# Altium schematic symbol library OffTheClock.SchLib: 27 symbols
Pins are listed as number, name and electrical type; pins without a type are passive.

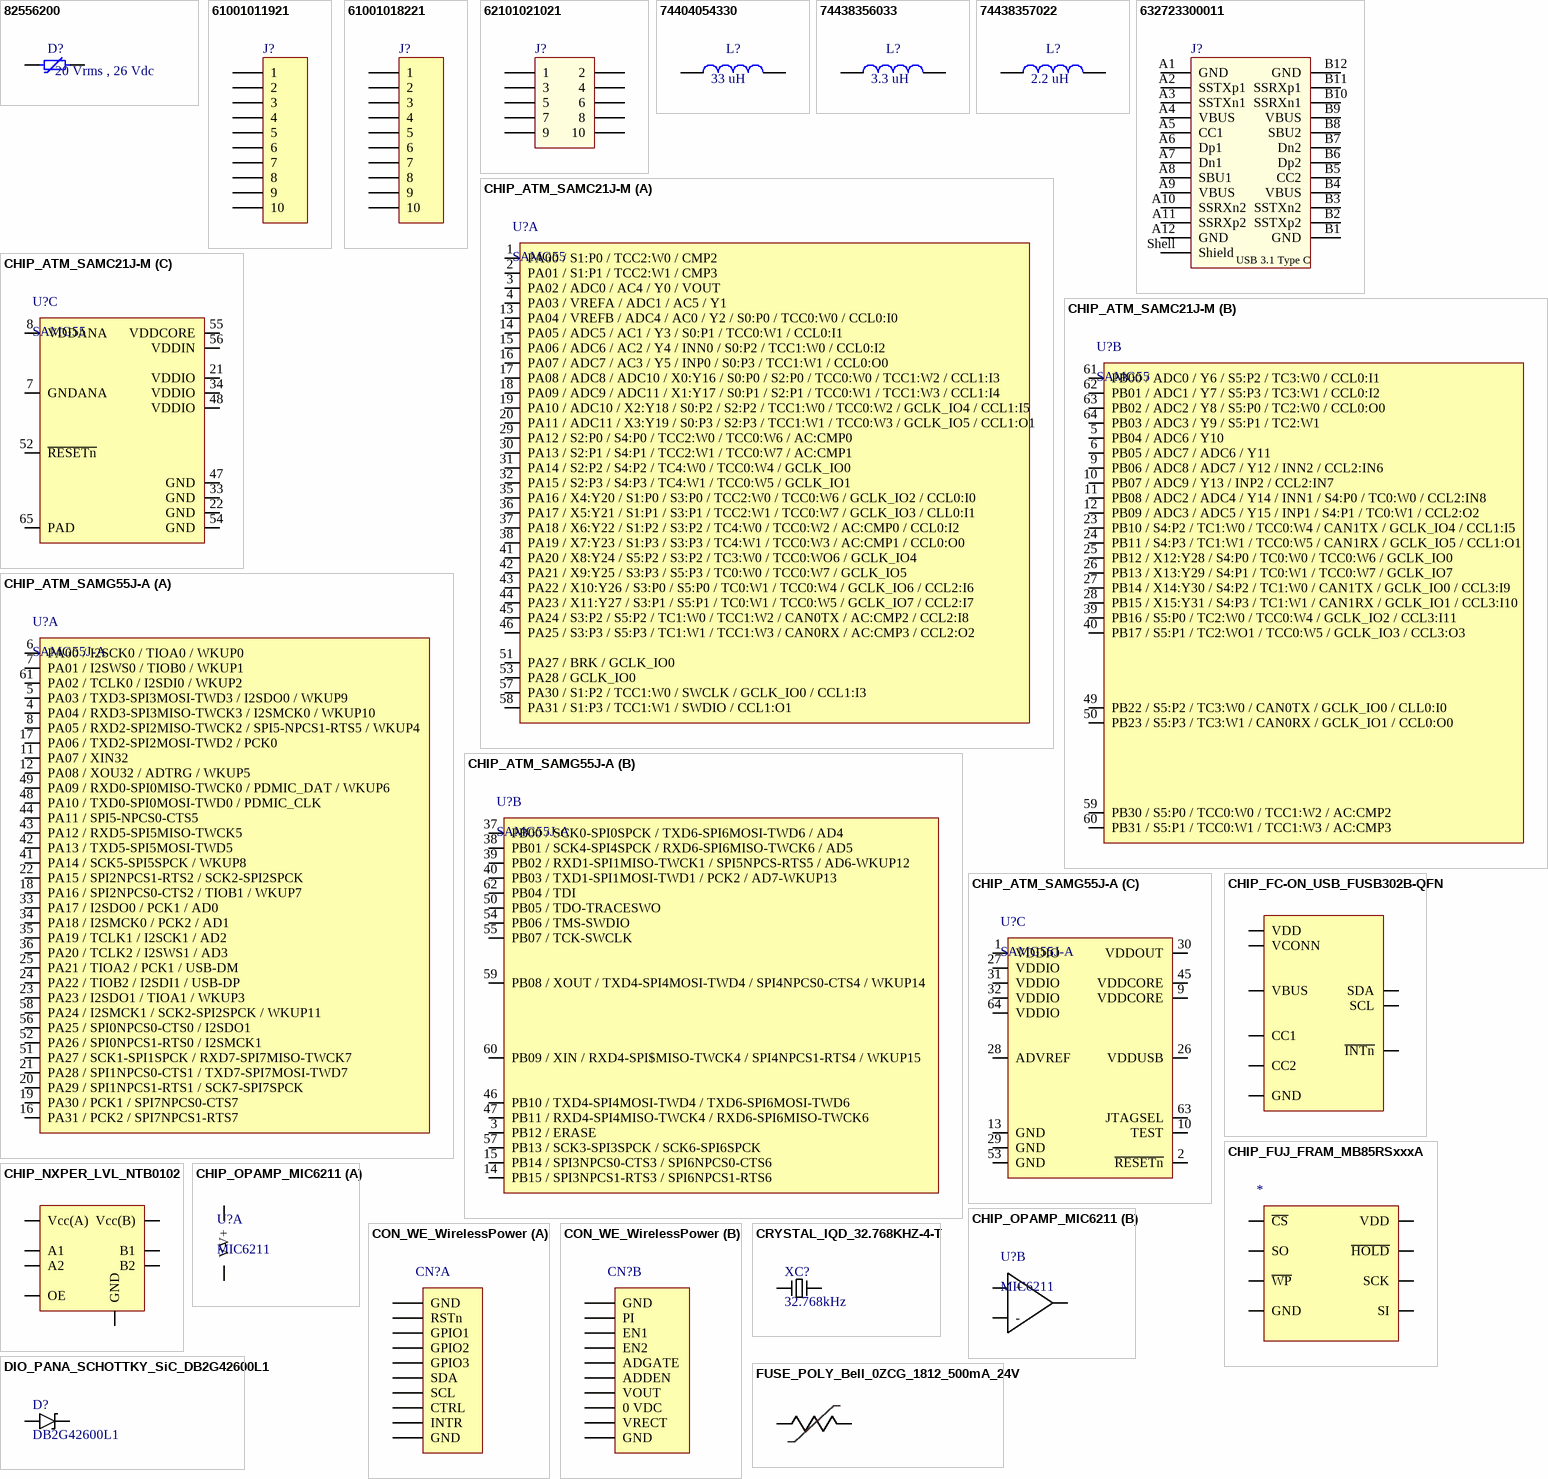
[diagram p0: symbols 82556200 to FUSE_POLY_Bell_0ZCG_1812_500mA_24V]

## 82556200
designator D?, comment 20 Vrms , 26 Vdc
WE-VS SMD Varistor, size 0603, 20 Vrms , 26 Vdc; PartNumber: 82556200; PublishedDate: Nov. 2016; Publisher: Wurth Elektronik; ComponentLink1Description: Manufacturer; ComponentLink1URL: http://www.we-online.de; ComponentLink2Description: Datasheet; ComponentLink2URL: http://katalog.we-online.de/pbs/datasheet/82556200.pdf; Size: 0603; Value: 20 Vrms , 26 Vdc
footprint WE-VS_0603
pins: 1 I/O1, 2 I/O1

## 61001011921
designator J?, comment 10p  (value not drawn)
WR-PHD 2.54 mm SMT Socket Header, 10p; PartNumber: 61001011921; PublishedDate: July 2016; Publisher: Wurth Elektronik; ComponentLink1Description: Manufacturer; ComponentLink1URL: http://www.we-online.de; ComponentLink2Description: Datasheet; ComponentLink2URL: http://katalog.we-online.de/em/datasheet/6100xx11921.pdf; PinNumber: 10p
footprint 61001011921
pins: 1, 2, 3, 4, 5, 6, 7, 8, 9, 10

## 61001018221
designator J?, comment 10p  (value not drawn)
WR-PHD 2.54 mm SMT Pin Header, 10p; PartNumber: 61001018221; PublishedDate: July 2016; Publisher: Wurth Elektronik; ComponentLink1Description: Manufacturer; ComponentLink1URL: http://www.we-online.de; ComponentLink2Description: Datasheet; ComponentLink2URL: http://katalog.we-online.de/em/datasheet/6100xx18221%282%29.pdf; PinNumber: 10p
footprint 61001018221
pins: 1, 2, 3, 4, 5, 6, 7, 8, 9, 10

## 62101021021
designator J?
WR-PHD 1.27 mm SMD Dual Pin Header, H=3.80mm, 10p; Part Number: 62101021021; Pitch: 1.27 mm; Pin Number: 10; ComponentLink1Description: Manufacturer; ComponentLink1URL: http://www.we-online.de; ComponentLink2Description: Datasheet; ComponentLink2URL: http://katalog.we-online.de/em/datasheet/6210xx21021.pdf; Published Date: April 2017; Publisher: Wurth Elektronik
footprint 62101021021 (SMD Dual Pin Header, H=3.80mm, 10p)
pins: 1, 2, 3, 4, 5, 6, 7, 8, 9, 10

## 74404054330
designator L?  value 33 uH
WE-LQS SMD Power Inductor, size 5040, 33 uH; PartNumber: 74404054330; RatedCurrent: 1.2 A; PublishedDate: Nov. 2016; Publisher: Wurth Elektronik; ComponentLink1Description: Manufacturer; ComponentLink1URL: http://www.we-online.de; ComponentLink2Description: Datasheet; ComponentLink2URL: http://katalog.we-online.de/pbs/datasheet/74404054330.pdf; Size: 5040
footprint WE-LQS_5040
pins: 1, 2

## 74438356033
designator L?  value 3.3 uH
WE-MAPI SMD Shielded Power Inductor, size 4020, 3.3 uH; PartNumber: 74438356033; RatedCurrent: 3.6 A; PublishedDate: Nov. 2016; Publisher: Wurth Elektronik; ComponentLink1Description: Manufacturer; ComponentLink1URL: http://www.we-online.de; ComponentLink2Description: Datasheet; ComponentLink2URL: http://katalog.we-online.de/pbs/datasheet/74438356033.pdf; Size: 4020
footprint WE-MAPI_4020
pins: 1, 2

## 74438357022
designator L?  value 2.2 uH
WE-MAPI SMD Shielded Power Inductor, size 4030, 2.2 uH; PartNumber: 74438357022; RatedCurrent: 5.2 A; PublishedDate: Nov. 2016; Publisher: Wurth Elektronik; ComponentLink1Description: Manufacturer; ComponentLink1URL: http://www.we-online.de; ComponentLink2Description: Datasheet; ComponentLink2URL: http://katalog.we-online.de/pbs/datasheet/74438357022.pdf; Size: 4030
footprint WE-MAPI_4030
pins: 1, 2

## 632723300011
designator J?
USB 3.1 Type C Receptacle Horizontal THR WR-COM; Part Number: 632723300011; Interface Type: Type C; Sub-Family: USB 3.1; ComponentLink1Description: Manufacturer; ComponentLink1URL: http://www.we-online.de; ComponentLink2Description: Datasheet; ComponentLink2URL: http://katalog.we-online.de/em/datasheet/632723x00011.pdf; Published Date: April 2017; Publisher: Wurth Elektronik; Gender: Receptacle; Type: Horizontal; Construction: THR
footprint 632723300011
pins: A1 GND, A2 SSTXp1, A3 SSTXn1, A4 VBUS, A5 CC1, A6 Dp1, A7 Dn1, A8 SBU1, A9 VBUS, A10 SSRXn2, A11 SSRXp2, A12 GND, B1 GND, B2 SSTXp2, B3 SSTXn2, B4 VBUS, B5 CC2, B6 Dp2, B7 Dn2, B8 SBU2, B9 VBUS, B10 SSRXn1, B11 SSRXp1, B12 GND, Shell Shield
text: USB 3.1 Type C

## CHIP_ATM_SAMC21J-M
designator U?, comment SAMG55
Atmel ARM M0+ 64pin SAMC21
part A pins: 1 PA00 / S1:P0 / TCC2:W0 / CMP2 "PadConnect", 2 PA01 / S1:P1 / TCC2:W1 / CMP3 "PadConnect", 3 PA02 / ADC0 / AC4 / Y0 / VOUT "PadConnect", 4 PA03 / VREFA / ADC1 / AC5 / Y1 "PadConnect", 13 PA04 / VREFB / ADC4 / AC0 / Y2 / S0:P0 / TCC0:W0 / CCL0:I0 "PadConnect", 14 PA05 / ADC5 / AC1 / Y3 / S0:P1 / TCC0:W1 / CCL0:I1 "PadConnect", 15 PA06 / ADC6 / AC2 / Y4 / INN0 / S0:P2 / TCC1:W0 / CCL0:I2 "PadConnect", 16 PA07 / ADC7 / AC3 / Y5 / INP0 / S0:P3 / TCC1:W1 / CCL0:O0 "PadConnect", 17 PA08 / ADC8 / ADC10 / X0:Y16 / S0:P0 / S2:P0 / TCC0:W0 / TCC1:W2 / CCL1:I3 "PadConnect", 18 PA09 / ADC9 / ADC11 / X1:Y17 / S0:P1 / S2:P1 / TCC0:W1 / TCC1:W3 / CCL1:I4 "PadConnect", 19 PA10 / ADC10 / X2:Y18 / S0:P2 / S2:P2 / TCC1:W0 / TCC0:W2 / GCLK_IO4 / CCL1:I5 "PadConnect", 20 PA11 / ADC11 / X3:Y19 / S0:P3 / S2:P3 / TCC1:W1 / TCC0:W3 / GCLK_IO5 / CCL1:O1 "PadConnect", 29 PA12 / S2:P0 / S4:P0 / TCC2:W0 / TCC0:W6 / AC:CMP0 "PadConnect", 30 PA13 / S2:P1 / S4:P1 / TCC2:W1 / TCC0:W7 / AC:CMP1 "PadConnect", 31 PA14 / S2:P2 / S4:P2 / TC4:W0 / TCC0:W4 / GCLK_IO0 "PadConnect", 32 PA15 / S2:P3 / S4:P3 / TC4:W1 / TCC0:W5 / GCLK_IO1 "PadConnect", 35 PA16 / X4:Y20 / S1:P0 / S3:P0 / TCC2:W0 / TCC0:W6 / GCLK_IO2 / CCL0:I0 "PadConnect", 36 PA17 / X5:Y21 / S1:P1 / S3:P1 / TCC2:W1 / TCC0:W7 / GCLK_IO3 / CLL0:I1 "PadConnect", 37 PA18 / X6:Y22 / S1:P2 / S3:P2 / TC4:W0 / TCC0:W2 / AC:CMP0 / CCL0:I2 "PadConnect", 38 PA19 / X7:Y23 / S1:P3 / S3:P3 / TC4:W1 / TCC0:W3 / AC:CMP1 / CCL0:O0 "PadConnect", 41 PA20 / X8:Y24 / S5:P2 / S3:P2 / TC3:W0 / TCC0:WO6 / GCLK_IO4 "PadConnect", 42 PA21 / X9:Y25 / S3:P3 / S5:P3 / TC0:W0 / TCC0:W7 / GCLK_IO5 "PadConnect", 43 PA22 / X10:Y26 / S3:P0 / S5:P0 / TC0:W1 / TCC0:W4 / GCLK_IO6 / CCL2:I6 "PadConnect", 44 PA23 / X11:Y27 / S3:P1 / S5:P1 / TC0:W1 / TCC0:W5 / GCLK_IO7 / CCL2:I7 "PadConnect", 45 PA24 / S3:P2 / S5:P2 / TC1:W0 / TCC1:W2 / CAN0TX / AC:CMP2 / CCL2:I8 "PadConnect", 46 PA25 / S3:P3 / S5:P3 / TC1:W1 / TCC1:W3 / CAN0RX / AC:CMP3 / CCL2:O2 "PadConnect", 51 PA27 / BRK / GCLK_IO0 "PadConnect", 53 PA28 / GCLK_IO0 "PadConnect", 57 PA30 / S1:P2 / TCC1:W0 / SWCLK / GCLK_IO0 / CCL1:I3 "PadConnect", 58 PA31 / S1:P3 / TCC1:W1 / SWDIO / CCL1:O1 "PadConnect"
part B pins: 5 PB04 / ADC6 / Y10  "PadConnect", 6 PB05 / ADC7 / ADC6 / Y11 "PadConnect", 9 PB06 / ADC8 / ADC7 / Y12 / INN2 / CCL2:IN6 "PadConnect", 10 PB07 / ADC9 / Y13 / INP2 / CCL2:IN7 "PadConnect", 11 PB08 / ADC2 / ADC4 / Y14 / INN1 / S4:P0 / TC0:W0 / CCL2:IN8 "PadConnect", 12 PB09 / ADC3 / ADC5 / Y15 / INP1 / S4:P1 / TC0:W1 / CCL2:O2 "PadConnect", 23 PB10 / S4:P2 / TC1:W0 / TCC0:W4 / CAN1TX / GCLK_IO4 / CCL1:I5 "PadConnect", 24 PB11 / S4:P3 / TC1:W1 / TCC0:W5 / CAN1RX / GCLK_IO5 / CCL1:O1 "PadConnect", 25 PB12 / X12:Y28 / S4:P0 / TC0:W0 / TCC0:W6 / GCLK_IO0 "PadConnect", 26 PB13 / X13:Y29 / S4:P1 / TC0:W1 / TCC0:W7 / GCLK_IO7 "PadConnect", 27 PB14 / X14:Y30 / S4:P2 / TC1:W0 / CAN1TX / GCLK_IO0 / CCL3:I9 "PadConnect", 28 PB15 / X15:Y31 / S4:P3 / TC1:W1 / CAN1RX / GCLK_IO1 / CCL3:I10 "PadConnect", 39 PB16 / S5:P0 / TC2:W0 / TCC0:W4 / GCLK_IO2 / CCL3:I11 "PadConnect", 40 PB17 / S5:P1 / TC2:WO1 / TCC0:W5 / GCLK_IO3 / CCL3:O3 "PadConnect", 49 PB22 / S5:P2 / TC3:W0 / CAN0TX / GCLK_IO0 / CLL0:I0 "PadConnect", 50 PB23 / S5:P3 / TC3:W1 / CAN0RX / GCLK_IO1 / CCL0:O0 "PadConnect", 59 PB30 / S5:P0 / TCC0:W0 / TCC1:W2 / AC:CMP2 "PadConnect", 60 PB31 / S5:P1 / TCC0:W1 / TCC1:W3 / AC:CMP3 "PadConnect", 61 PB00 / ADC0 / Y6 / S5:P2 / TC3:W0 / CCL0:I1 "PadConnect", 62 PB01 / ADC1 / Y7 / S5:P3 / TC3:W1 / CCL0:I2 "PadConnect", 63 PB02 / ADC2 / Y8 / S5:P0 / TC2:W0 / CCL0:O0 "PadConnect", 64 PB03 / ADC3 / Y9 / S5:P1 / TC2:W1 "PadConnect"
part C pins: 7 GNDANA "PadConnect", 8 VDDANA "PadConnect", 21 VDDIO "PadConnect", 22 GND "PadConnect", 33 GND "PadConnect", 34 VDDIO "PadConnect", 47 GND "PadConnect", 48 VDDIO "PadConnect", 52 ~{RESETn} "PadConnect", 54 GND "PadConnect", 55 VDDCORE "PadConnect", 56 VDDIN "PadConnect", 65 PAD "PadConnect"

## CHIP_ATM_SAMG55J-A
designator U?, comment SAMG55J-A
Atmel ARM Cortex M4, 64pin QFP
part A pins: 4 PA04 / RXD3-SPI3MISO-TWCK3 / I2SMCK0 / WKUP10 "PadConnect", 5 PA03 / TXD3-SPI3MOSI-TWD3 / I2SDO0 / WKUP9 "PadConnect", 6 PA00 / I2SCK0 / TIOA0 / WKUP0 "PadConnect", 7 PA01 / I2SWS0 / TIOB0 / WKUP1 "PadConnect", 8 PA05 / RXD2-SPI2MISO-TWCK2 / SPI5-NPCS1-RTS5 / WKUP4 "PadConnect", 11 PA07 / XIN32 "PadConnect", 12 PA08 / XOU32 / ADTRG / WKUP5 "PadConnect", 16 PA31 / PCK2 / SPI7NPCS1-RTS7 "PadConnect", 17 PA06 / TXD2-SPI2MOSI-TWD2 / PCK0 "PadConnect", 18 PA16 / SPI2NPCS0-CTS2 / TIOB1 / WKUP7 "PadConnect", 19 PA30 / PCK1 / SPI7NPCS0-CTS7 "PadConnect", 20 PA29 / SPI1NPCS1-RTS1 / SCK7-SPI7SPCK "PadConnect", 21 PA28 / SPI1NPCS0-CTS1 / TXD7-SPI7MOSI-TWD7 "PadConnect", 22 PA15 / SPI2NPCS1-RTS2 / SCK2-SPI2SPCK "PadConnect", 23 PA23 / I2SDO1 / TIOA1 / WKUP3 "PadConnect", 24 PA22 / TIOB2 / I2SDI1 / USB-DP "PadConnect", 25 PA21 / TIOA2 / PCK1 / USB-DM "PadConnect", 33 PA17 / I2SDO0 / PCK1 / AD0 "PadConnect", 34 PA18 / I2SMCK0 / PCK2 / AD1 "PadConnect", 35 PA19 / TCLK1 / I2SCK1 / AD2 "PadConnect", 36 PA20 / TCLK2 / I2SWS1 / AD3 "PadConnect", 41 PA14 / SCK5-SPI5SPCK / WKUP8 "PadConnect", 42 PA13 / TXD5-SPI5MOSI-TWD5 "PadConnect", 43 PA12 / RXD5-SPI5MISO-TWCK5  "PadConnect", 44 PA11 / SPI5-NPCS0-CTS5 "PadConnect", 48 PA10 / TXD0-SPI0MOSI-TWD0 / PDMIC_CLK "PadConnect", 49 PA09 / RXD0-SPI0MISO-TWCK0 / PDMIC_DAT / WKUP6 "PadConnect", 51 PA27 / SCK1-SPI1SPCK / RXD7-SPI7MISO-TWCK7 "PadConnect", 52 PA26 / SPI0NPCS1-RTS0 / I2SMCK1 "PadConnect", 56 PA25 / SPI0NPCS0-CTS0 / I2SDO1 "PadConnect", 58 PA24 / I2SMCK1 / SCK2-SPI2SPCK / WKUP11 "PadConnect", 61 PA02 / TCLK0 / I2SDI0 / WKUP2 "PadConnect"
part B pins: 3 PB12 / ERASE "PadConnect", 14 PB15 / SPI3NPCS1-RTS3 / SPI6NPCS1-RTS6 "PadConnect", 15 PB14 / SPI3NPCS0-CTS3 / SPI6NPCS0-CTS6 "PadConnect", 37 PB00 / SCK0-SPI0SPCK / TXD6-SPI6MOSI-TWD6 / AD4 "PadConnect", 38 PB01 / SCK4-SPI4SPCK / RXD6-SPI6MISO-TWCK6 / AD5 "PadConnect", 39 PB02 / RXD1-SPI1MISO-TWCK1 / SPI5NPCS-RTS5 / AD6-WKUP12 "PadConnect", 40 PB03 / TXD1-SPI1MOSI-TWD1 / PCK2 / AD7-WKUP13 "PadConnect", 46 PB10 / TXD4-SPI4MOSI-TWD4 / TXD6-SPI6MOSI-TWD6 "PadConnect", 47 PB11 / RXD4-SPI4MISO-TWCK4 / RXD6-SPI6MISO-TWCK6 "PadConnect", 50 PB05 / TDO-TRACESWO "PadConnect", 54 PB06 / TMS-SWDIO "PadConnect", 55 PB07 / TCK-SWCLK "PadConnect", 57 PB13 / SCK3-SPI3SPCK / SCK6-SPI6SPCK "PadConnect", 59 PB08 / XOUT / TXD4-SPI4MOSI-TWD4 / SPI4NPCS0-CTS4 / WKUP14 "PadConnect", 60 PB09 / XIN / RXD4-SPI$MISO-TWCK4 / SPI4NPCS1-RTS4 / WKUP15 "PadConnect", 62 PB04 / TDI "PadConnect"
part C pins: 1 VDDIO "PadConnect", 2 ~{RESETn} "PadConnect", 9 VDDCORE "PadConnect", 10 TEST "PadConnect", 13 GND "PadConnect", 26 VDDUSB "PadConnect", 27 VDDIO "PadConnect", 28 ADVREF "PadConnect", 29 GND "PadConnect", 30 VDDOUT "PadConnect", 31 VDDIO "PadConnect", 32 VDDIO "PadConnect", 45 VDDCORE "PadConnect", 53 GND "PadConnect", 63 JTAGSEL "PadConnect", 64 VDDIO "PadConnect"

## CHIP_FC-ON_USB_FUSB302B-QFN
designator *  (value not drawn)
footprint CHIP_FC-ON_USB-FUSB302B_QFN50P250X250X80_HS-15N (QFN, 14-Leads, Body 2.50x2.50mm, Pitch 0.50mm, Thermal Pad 1.38x1.38mm, IPC Medium Density)
footprint CHIP_FC-ON_USB-FUSB302B_QFN50P250X250X80_HS-15N (QFN, 14-Leads, Body 2.50x2.50mm, Pitch 0.50mm, Thermal Pad 1.38x1.38mm, IPC Medium Density)
pins: 1 CC2 "PadConnect", 2 VBUS "PadConnect", 3 VDD "PadConnect", 4 VDD "PadConnect", 5 ~{INTn} "PadConnect", 6 SCL "PadConnect", 7 SDA "PadConnect", 8 GND "PadConnect", 9 GND "PadConnect", 10 CC1 "PadConnect", 11 CC1 "PadConnect", 12 VCONN "PadConnect", 13 VCONN "PadConnect", 14 CC2 "PadConnect"

## CHIP_FUJ_FRAM_MB85RSxxxA
designator *  (value not drawn)
footprint CHIP_FUJ_FRAM_MB85RSxxxA_SOP127P610X175-8N (SOP, 8-Leads, Body 5.07x3.95mm, Pitch 1.27mm, IPC Medium Density)
pins: 1 ~{CS}, 2 SO, 3 ~{WP}, 4 GND, 5 SI, 6 SCK, 7 ~{HOLD}, 8 VDD

## CHIP_NXPER_LVL_NTB0102
designator *  (value not drawn)
footprint CHIP_NXPER_LVL_NTB0102_PSON50P100X50-8N (PSON, 8-Leads, Body 1.95x1.00mm, Pitch 0.50mm, IPC Medium Density)
pins: 1 B2 "PadConnect", 2 GND "PadConnect", 3 Vcc(A) "PadConnect", 4 A2 "PadConnect", 5 A1 "PadConnect", 6 OE "PadConnect", 7 Vcc(B) "PadConnect", 8 B1 "PadConnect"

## CHIP_OPAMP_MIC6211
designator U?, comment MIC6211
footprint CHIP_OPAMP_MIC6211_SOT95P280X145-5N (SOT23, 5-Leads, Body 2.90x2.80mm, Pitch 0.95mm, IPC Medium Density)
part A pins: 2 V- "PadConnect", 5 V+ "PadConnect"
part B pins: 1 Out "PadConnect", 3 + "PadConnect", 4 - "PadConnect"

## CON_WE_WirelessPower
designator CN?, comment WirelessPower  (value not drawn)
Wurth Elektronik Wireless Power Experimenter Receiver Footprint; Constituant Part 1: *; Constituant Part 1 Count: *; Constituant Part 2: *; Constituant Part 2 Count: *; Constituant Part 3: *; Constituant Part 3 Count: *
footprint CON_WE_WirelessPower (Wurth Elektronik Wireless Power Footprint)
part A pins: 11 GND, 12 RSTn, 13 GPIO1, 14 GPIO2, 15 GPIO3, 16 SDA, 17 SCL, 18 CTRL, 19 INTR, 20 GND
part B pins: 1 GND, 2 PI, 3 EN1, 4 EN2, 5 ADGATE, 6 ADDEN, 7 VOUT, 8 0 VDC, 9 VRECT, 10 GND

## CRYSTAL_IQD_32.768KHZ-4-T
designator XC?, comment 32.768kHz
CFPX-217 IQD 32.768kHz 12.5pF Crystal
footprint CRYSTAL_IQD_32.768kHz_INDC3215X09N (Chip Inductor, 2-Leads, Body 3.20x1.50mm, IPC Medium Density)
pins: 1, 4

## DIO_PANA_SCHOTTKY_SiC_DB2G42600L1
designator D?, comment DB2G42600L1
Diode Schottky, Panasonic, 1A forward, low leakage
footprint DIO_PANA_DB2G42600L1_DFN66P100X12-2N (DFN, 2-Leads, Body 0.60x1.00mm, Pitch 0.66mm, IPC Medium Density)
pins: 1 C "PadConnect", 2 A "PadConnect"

## FUSE_POLY_Bell_0ZCG_1812_500mA_24V
designator F?, comment 0ZCG0050  (value not drawn)
footprint FUSE_POLY_0ZCG_RESC4632X16N (Chip Resistor, 2-Leads, Body 4.55x3.24mm, IPC Medium Density)
pins: 1 "PadConnect", 2 "PadConnect"

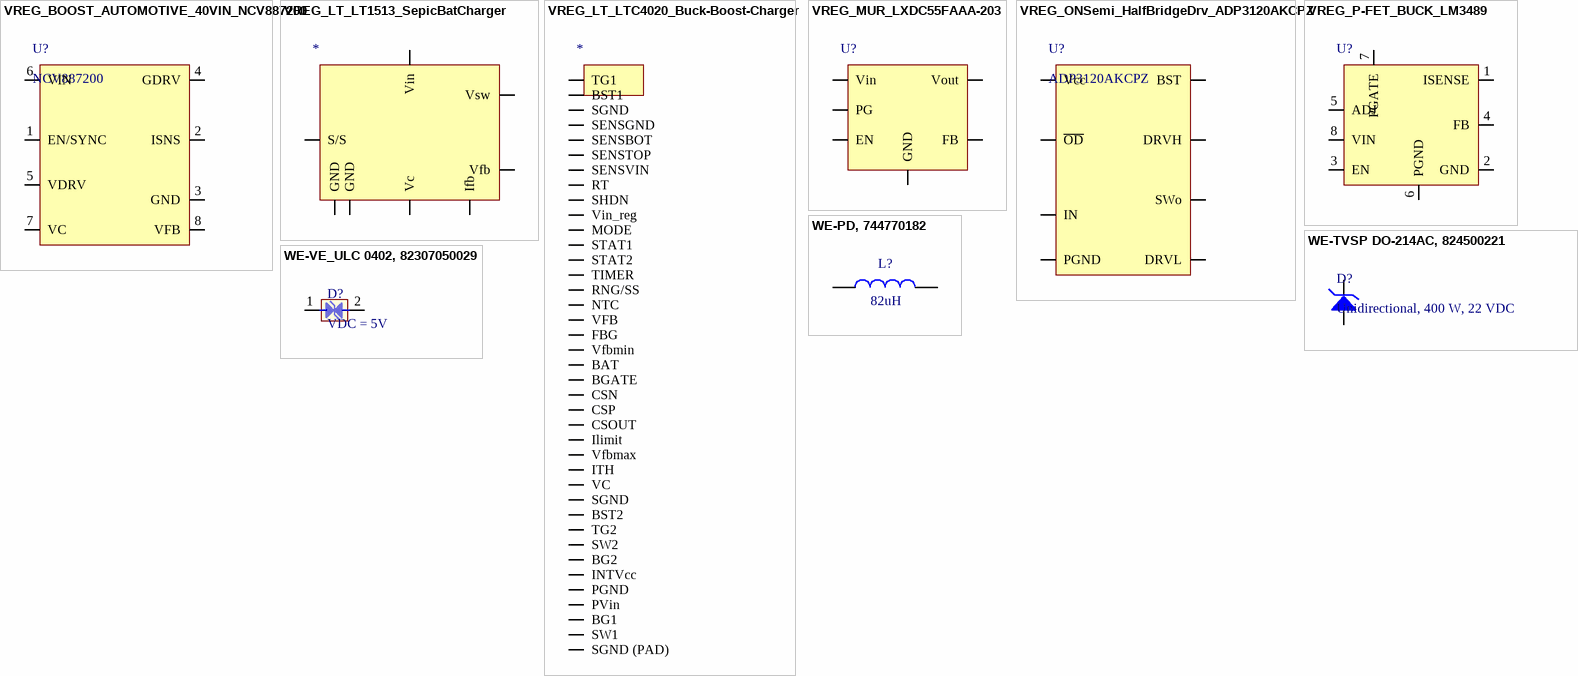
[diagram p1: symbols VREG_BOOST_AUTOMOTIVE_40VIN_NCV887200 to WE-VE_ULC 0402, 82307050029]

## VREG_BOOST_AUTOMOTIVE_40VIN_NCV887200
designator U?, comment NCV887200
footprint IC_ON_NCV887200_SOP127P600X175-8N (SOP, 8-Leads, Body 4.90x3.90mm, Pitch 1.27mm, IPC Medium Density)
pins: 1 EN/SYNC, 2 ISNS, 3 GND, 4 GDRV, 5 VDRV, 6 VIN, 7 VC, 8 VFB

## VREG_LT_LT1513_SepicBatCharger
designator *  (value not drawn)
footprint VREG_LT_LT1513_DPAK150P1394X457-8N (D2-PAK, 8-Pads, Body 7.80x8.63mm (max), IPC Medium Density)
pins: 1 Vc, 2 Vfb, 3 Ifb, 4 GND, 5 Vsw, 6 S/S, 7 Vin, 8 GND

## VREG_LT_LTC4020_Buck-Boost-Charger
designator *  (value not drawn)
pins: 1 TG1, 2 BST1, 3 SGND, 4 SENSGND, 5 SENSBOT, 6 SENSTOP, 7 SENSVIN, 8 RT, 9 SHDN, 10 Vin_reg, 11 MODE, 12 STAT1, 13 STAT2, 14 TIMER, 15 RNG/SS, 16 NTC, 17 VFB, 18 FBG, 19 Vfbmin, 20 BAT, 21 BGATE, 22 CSN, 23 CSP, 24 CSOUT, 25 Ilimit, 26 Vfbmax, 27 ITH, 28 VC, 29 SGND, 30 BST2, 31 TG2, 32 SW2, 33 BG2, 34 INTVcc, 35 PGND, 36 PVin, 37 BG1, 38 SW1, 39 SGND (PAD)

## VREG_MUR_LXDC55FAAA-203
designator U?  (value not drawn)
Murata 1.5A adjustable Buck Converter
footprint VREG_MUR_LXDC55FAAA-203
pins: 1 EN, 3 Vin, 4 Vin, 5 Vin, 6 GND, 7 Vout, 8 Vout, 9 Vout, 10 PG, 11 FB, 12 GND, 13 GND, 14 GND

## VREG_ONSemi_HalfBridgeDrv_ADP3120AKCPZ
designator U?, comment ADP3120AKCPZ
PartNo: ADP3120A
footprint CHIP_ON_DRV_ADP31x0AKCPZ_SON50P300X100_HS-9N (SON, 8-Leads, Body 3.00x3.00mm, Pitch 0.50mm, Thermal Pad 1.74x1.45mm, IPC Medium Density)
pins: 1 BST "PadConnect", 2 IN "PadConnect", 3 ~{OD} "PadConnect", 4 Vcc "PadConnect", 5 DRVL "PadConnect", 6 PGND "PadConnect", 7 SWo "PadConnect", 8 DRVH "PadConnect"

## VREG_P-FET_BUCK_LM3489
designator U?, comment LM3489  (value not drawn)
footprint IC_TI_LM3489_TSOP65P490X110-8N (TSOP, 8-Leads, Body 3.00x3.00mm, Pitch 0.65mm, IPC Medium Density)
pins: 1 ISENSE, 2 GND, 3 EN, 4 FB, 5 ADJ, 6 PGND, 7 PGATE, 8 VIN

## WE-PD, 744770182
designator L?  value 82uH
WE-PD SMD Shielded Power Inductor, size 1280, 82uH; PartNumber: 744770182; Base: Metal Base; PublishedDate: Sep. 2016; Publisher: Wurth Elektronik; ComponentLink1Description: Manufacturer; ComponentLink1URL: http://www.we-online.de; ComponentLink2Description: Datasheet; ComponentLink2URL: http://katalog.we-online.com/pbs/datasheet/744770182.pdf; Size: 1280
footprint WE-PD_1280_Metal Base
pins: 1, 2

## WE-TVSP DO-214AC, 824500221
designator D?, comment Unidirectional, 400 W, 22 VDC
WE-TVSP Power TVS Diode, Unidirectional, 400 W, 22 VDC; partNo: 824500221; Manufacturer: Wurth Elektronik; ComponentLink1Description: Manufacturer; ComponentLink1URL: http://www.we-online.de; Created by: Baojun Chen; Created Date: Nov.2015; ComponentLink2Description: Datasheet; ComponentLink2URL: http://katalog.we-online.de/pbs/datasheet/824500221.pdf
footprint DO-214AC_Unidirectional
pins: 1, 2

## WE-VE_ULC 0402, 82307050029
designator D?, comment VDC = 5V
WE-VE ULC ESD Suppressor, VDC = 5V; PartNo: 82307050029; Manufacturer: Wurth Elektronik; VDC: 5V; ComponentLink1Description: Manufacturer; ComponentLink1URL: http://www.we-online.de; Created by: BJ.Chen; Created Date: Jan 2016; ComponentLink2Description: Datasheet; ComponentLink2URL: http://katalog.we-online.de/pbs/datasheet/82307050029.pdf
footprint WE-VE ULC_0402 (0402, 2-Leads, Body 1.0x0.5mm, Pitch 1.5mm)
pins: 1 I/O1, 2 I/O2